# Altium footprint library Mako DSP PCB Footprint Library.PcbLib: 21 footprints (part 1 of 2)
Each footprint in its own frame and in the unit in brackets; x right, y up, seen from the top. Pads: shape width x height; smd on the part's side, far side on the other; paste and mask are expansions set on the pad; w line width, h text height; cw(c..) or ccw(c..) is an arc to the next point about the centre after c.
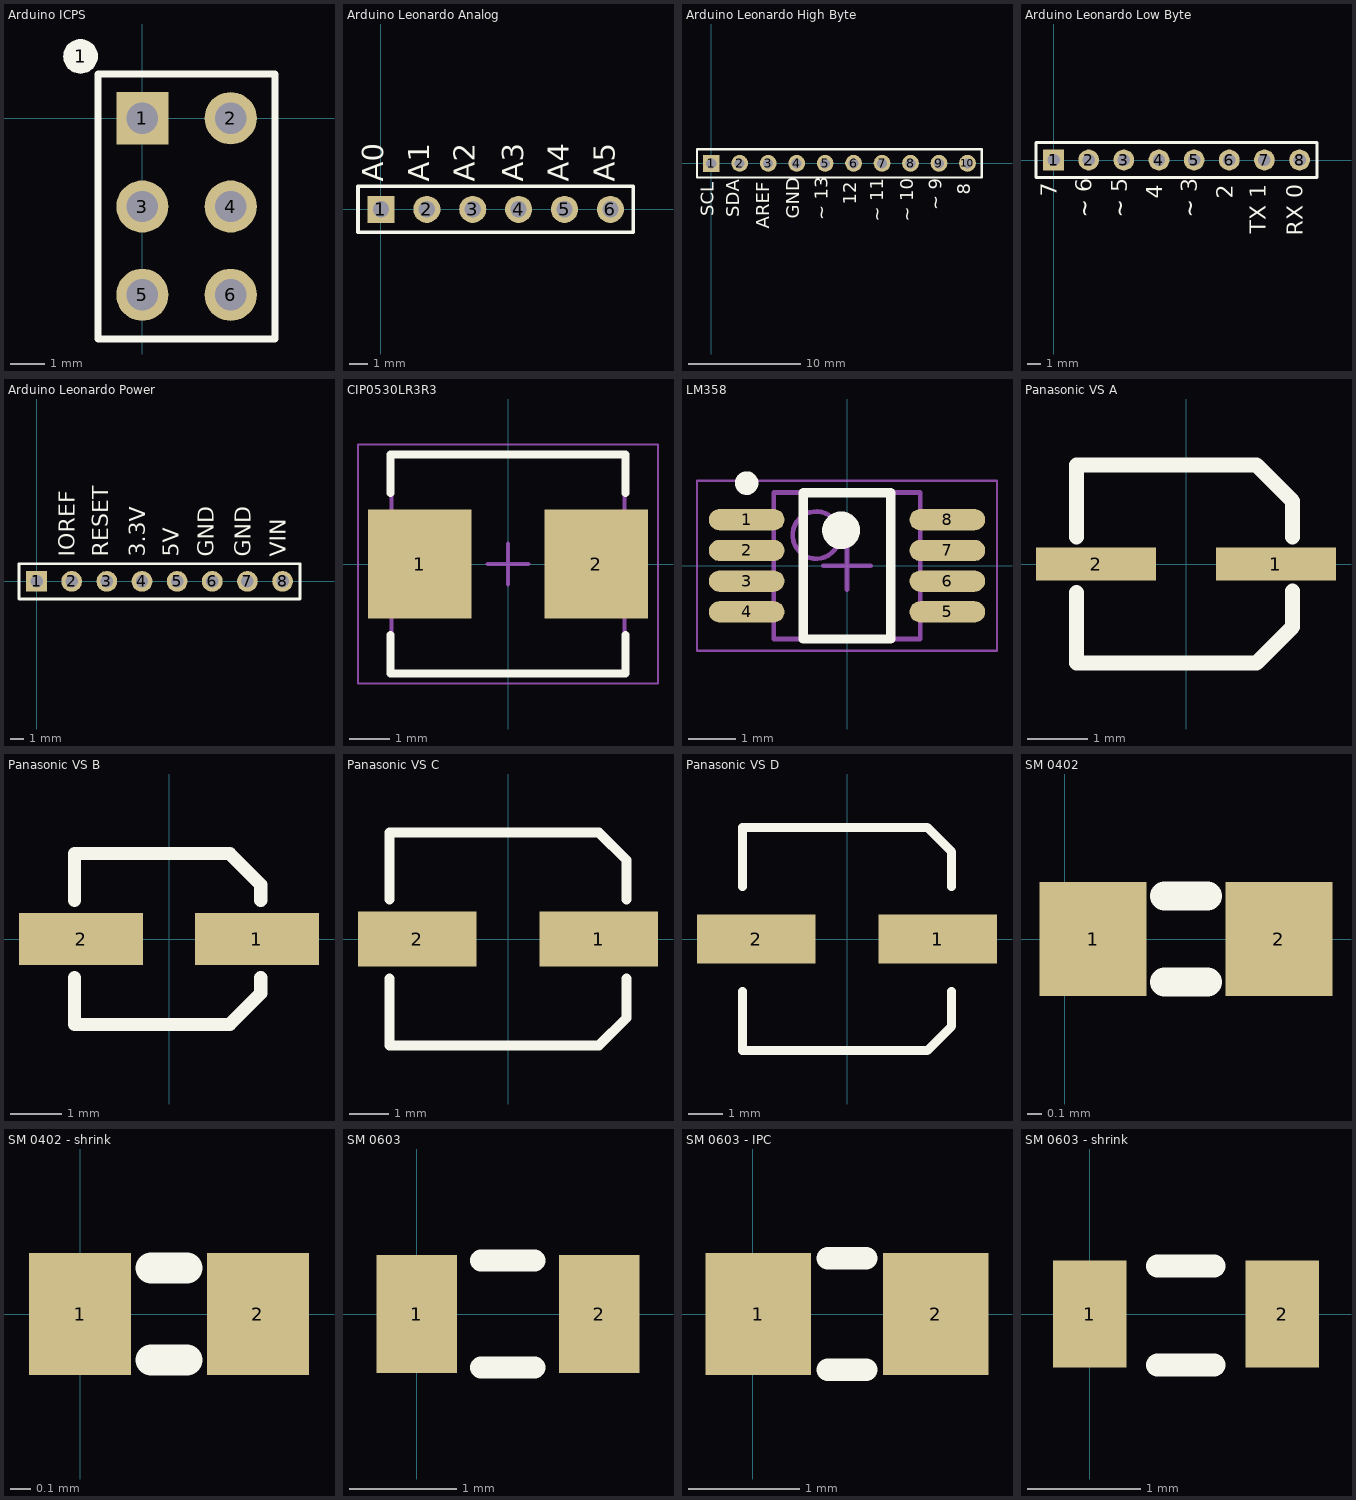
[diagram p0: the footprints below, top view; thin cyan lines are the x and y axes]

## Arduino ICPS [mm]
pads (7):
  round 1 on Top Overlay: 1(-1.778,1.778)
  rect 1.5x1.5 hole 0.9: 1(0,0)
  round 1.5 hole 0.9: 2(2.54,0) 3(0,-2.54) 4(2.54,-2.54) 5(0,-5.08) 6(2.54,-5.08)
Top Overlay:
  lines w0.2: -1.27,-1.482 -1.27,-6.35 ; -1.27,-6.35 3.81,-6.35 3.81,1.27 -1.27,1.27 -1.27,-6.35

## Arduino Leonardo Analog [mm] "Connector; Header; 6 Position"
pads (6):
  rect 1.5x1.5 hole 0.9: 1(0,0)
  round 1.5 hole 0.9: 2(2.54,0) 3(5.08,0) 4(7.62,0) 5(10.16,0) 6(12.7,0)
Top Overlay:
  lines w0.2: -1.27,-1.27 -1.27,1.27 13.97,1.27 13.97,-1.27 -1.27,-1.27
  text "A0" at 0.508,1.524 h2
  text "A1" at 3.048,1.524 h2
  text "A2" at 5.588,1.524 h2
  text "A3" at 8.255,1.524 h2
  text "A4" at 10.795,1.524 h2
  text "A5" at 13.335,1.524 h2
Bottom Overlay:
  text "A5" at 13.335,3.556 h2
  text "A4" at 10.795,3.556 h2
  text "A3" at 8.255,3.556 h2
  text "A2" at 5.588,3.556 h2
  text "A1" at 3.048,3.556 h2
  text "A0" at 0.508,3.556 h2

## Arduino Leonardo High Byte [mm]
pads (10):
  rect 1.5x1.5 hole 0.9: 1(0,0)
  round 1.5 hole 0.9: 2(2.54,0) 3(5.08,0) 4(7.62,0) 5(10.16,0) 6(12.7,0) 7(15.24,0) 8(17.78,0) 9(20.32,0) 10(22.86,0)
Top Overlay:
  lines w0.2: -1.27,-1.27 24.13,-1.27 24.13,1.27 0.635,1.27 -1.27,1.27 -1.27,-1.27
  text "8" at 23.495,-2.794 h2
  text "~ 9" at 20.955,-4.191 h2
  text "~ 10" at 18.415,-5.207 h2
  text "~ 11" at 15.748,-5.207 h2
  text "12" at 13.335,-3.683 h2
  text "~ 13" at 10.795,-5.08 h2
  text "GND" at 8.255,-4.953 h2
  text "AREF" at 5.588,-5.842 h2
  text "SDA" at 2.921,-4.826 h2
  text "SCL" at 0.635,-4.699 h2
Bottom Overlay:
  text "SCL" at 0.635,-1.778 h2
  text "SDA" at 2.921,-1.651 h2
  text "AREF" at 5.588,-1.524 h2
  text "GND" at 8.255,-1.651 h2
  text "13 ~" at 10.795,-1.524 h2
  text "12" at 13.335,-1.778 h2
  text "11 ~" at 15.748,-1.778 h2
  text "10 ~" at 18.415,-1.778 h2
  text "9 ~" at 20.955,-1.905 h2
  text "8" at 23.495,-1.905 h2

## Arduino Leonardo Low Byte [mm] "Connector; Header; 8 Position"
pads (8):
  rect 1.5x1.5 hole 0.9: 1(0,0)
  round 1.5 hole 0.9: 2(2.54,0) 3(5.08,0) 4(7.62,0) 5(10.16,0) 6(12.7,0) 7(15.24,0) 8(17.78,0)
Top Overlay:
  lines w0.2: -1.27,-1.27 19.05,-1.27 19.05,1.27 -1.27,1.27 -1.27,-1.27
  text "RX 0" at 18.415,-5.461 h2
  text "TX 1" at 15.748,-5.334 h2
  text "2" at 13.335,-2.794 h2
  text "~ 3" at 10.795,-4.191 h2
  text "4" at 8.255,-2.794 h2
  text "~ 5" at 5.715,-4.191 h2
  text "~ 6" at 3.175,-4.191 h2
  text "7" at 0.635,-2.667 h2
Bottom Overlay:
  text "7" at 0.635,-1.778 h2
  text "6 ~" at 3.175,-1.778 h2
  text "5 ~" at 5.715,-1.778 h2
  text "4" at 8.255,-1.905 h2
  text "3 ~" at 10.795,-1.905 h2
  text "2" at 13.335,-1.905 h2
  text "TX 1" at 15.748,-1.905 h2
  text "RX 0" at 18.288,-1.905 h2

## Arduino Leonardo Power [mm] "Connector; Header; 8 Position"
pads (8):
  rect 1.5x1.5 hole 0.9: 1(0,0)
  round 1.5 hole 0.9: 2(2.54,0) 3(5.08,0) 4(7.62,0) 5(10.16,0) 6(12.7,0) 7(15.24,0) 8(17.78,0)
Top Overlay:
  lines w0.2: -1.27,-1.27 -1.27,1.27 19.05,1.27 19.05,-1.27 -1.27,-1.27
  text "IOREF" at 3.175,1.778 h2
  text "RESET" at 5.588,1.778 h2
  text "3.3V" at 8.255,1.778 h2
  text "5V" at 10.668,1.778 h2
  text "GND" at 13.208,1.778 h2
  text "GND" at 15.875,1.778 h2
  text "VIN" at 18.415,1.778 h2
Bottom Overlay:
  text "VIN" at 18.415,4.318 h2
  text "GND" at 15.875,4.953 h2
  text "GND" at 13.208,4.953 h2
  text "5V" at 10.668,3.683 h2
  text "3.3V" at 8.255,5.207 h2
  text "RESET" at 5.715,6.731 h2
  text "IOREF" at 3.175,6.477 h2

## CIP0530LR3R3 [mm] "Precision Wire Wound Inductor, 2-Leads, Body 5.58x5.30mm, IPC Medium Density"
height 2.29
pads (2):
  rect 2.55x2.7 smd: 1(-2.175,0) 2(2.175,0)
Top Overlay:
  lines w0.2: -2.9,-1.75 -2.9,-2.7 2.9,-2.7 2.9,-1.75 ; -2.9,1.75 -2.9,2.7 2.9,2.7 2.9,1.75
Mechanical 13:
  lines w0.1: -2.875,-2.7 2.875,-2.7 2.875,2.7 -2.875,2.7 -2.875,-2.7
Mechanical 15:
  lines w0.05: -3.7,-2.95 3.7,-2.95 3.7,2.95 -3.7,2.95 -3.7,-2.95
  lines w0.1: -0.5,0 0.5,0 ; 0,-0.5 0,0.5
3D body: height 2.29, standoff 0, extent -2.875,-2.7 2.875,2.7

## LM358 [mm] "TSOP, 8-Leads, Body 3.00x3.00mm, Pitch 0.65mm, IPC Medium Density"
height 1.1
pads (8):
  oval 1.6x0.45 smd: 1(-2.125,0.975) 2(-2.125,0.325) 3(-2.125,-0.325) 4(-2.125,-0.975) 5(2.125,-0.975) 6(2.125,-0.325) 7(2.125,0.325) 8(2.125,0.975)
Top Overlay:
  circle w0.25: c-2.125,1.75 r0.125
  circle w0.4: c-0.125,0.75 r0.2
  lines w0.2: -0.925,-1.55 -0.925,1.55 0.925,1.55 0.925,-1.55 -0.925,-1.55
Mechanical 13:
  circle w0.1: c-0.65,0.65 r0.5
  lines w0.1: -1.55,-1.55 -1.55,1.55 1.55,1.55 1.55,-1.55 -1.55,-1.55
Mechanical 15:
  lines w0.05: -3.175,-1.8 -3.175,1.8 3.175,1.8 3.175,-1.8 -3.175,-1.8
  lines w0.1: -0.5,0 0.5,0 ; 0,-0.5 0,0.5
3D body: height 1.1, standoff 0.15, extent -1.55,-1.55 1.55,1.55

## Panasonic VS A [mm]
pads (2):
  rect 2x0.55 smd: 1(1.5,0) 2(-1.5,0)
Top Overlay:
  lines w0.254: -1.825,-0.475 -1.825,-1.65 1.175,-1.65 1.775,-1.05 1.775,-0.45 ; -1.825,0.45 -1.825,1.65 1.175,1.65 1.775,1.05 1.775,0.45

## Panasonic VS B [mm]
pads (2):
  rect 2.4x1 smd: 1(1.7,0) 2(-1.7,0)
Top Overlay:
  lines w0.254: -1.825,-0.75 -1.825,-1.65 1.175,-1.65 1.775,-1.05 1.775,-0.75 ; -1.825,0.75 -1.825,1.65 1.175,1.65 1.775,1.05 1.775,0.75

## Panasonic VS C [mm]
pads (2):
  rect 3x1.4 smd: 1(2.3,0) 2(-2.3,0)
Top Overlay:
  lines w0.254: -3,-1 -3,-2.7 2.3,-2.7 3,-2 3,-1 ; -3,1 -3,2.7 2.3,2.7 3,2 3,1

## Panasonic VS D [mm]
pads (2):
  rect 3.4x1.4 smd: 1(2.6,0) 2(-2.6,0)
Top Overlay:
  lines w0.254: -3,-1.5 -3,-3.2 2.3,-3.2 3,-2.5 3,-1.5 ; -3,1.5 -3,3.2 2.3,3.2 3,2.5 3,1.5

## SM 0402 [mm]
pads (2):
  rect 0.75x0.8 smd: 1(0.2,0) 2(1.5,0)
Top Overlay:
  lines w0.203: 0.7,-0.3 1,-0.3 ; 0.7,0.3 1,0.3

## SM 0402 - shrink [mm]
pads (2):
  rect 0.5x0.6 smd mask+0.051: 1(0,0) 2(0.875,0)
Top Overlay:
  lines w0.152: 0.35,-0.225 0.525,-0.225 ; 0.35,0.225 0.525,0.225

## SM 0603 [mm]
pads (2):
  rect 0.75x1.1 smd: 1(0,0) 2(1.704,0)
Top Overlay:
  lines w0.203: 0.6,-0.5 1.1,-0.5 ; 0.6,0.5 1.1,0.5

## SM 0603 - IPC [mm]
pads (2):
  rect 0.95x1.1 smd: 1(0.05,0) 2(1.65,0)
Top Overlay:
  lines w0.203: 0.675,-0.5 1.025,-0.5 ; 0.675,0.5 1.025,0.5

## SM 0603 - shrink [mm]
pads (2):
  rect 0.65x0.95 smd: 1(0,0) 2(1.704,0)
Top Overlay:
  lines w0.203: 0.6,-0.45 1.1,-0.45 ; 0.6,0.425 1.1,0.425